# Altium footprint library BARR_0.5IN_2x1_0.PcbLib: 1 footprints
Each footprint in its own frame and in the unit in brackets; x right, y up, seen from the top. Pads: shape width x height; smd on the part's side, far side on the other; paste and mask are expansions set on the pad; w line width, h text height; cw(c..) or ccw(c..) is an arc to the next point about the centre after c.
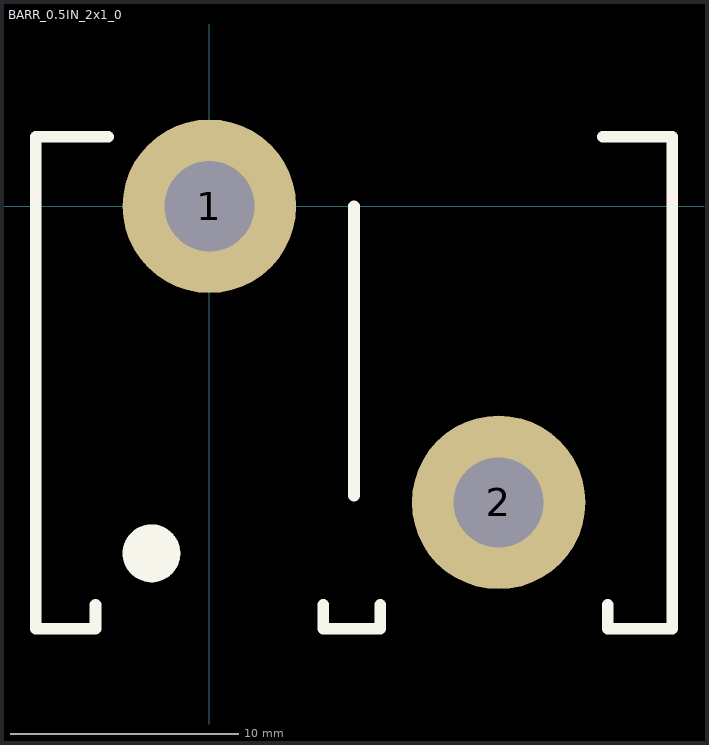
[diagram p0: the footprint, top view; thin cyan lines are the x and y axes]

## BARR_0.5IN_2x1_0 [mm] "Barrier Block, 0.5\" Pitch, 2 Pos, 1 Level, Molex 38969"
pads (2):
  round 7.62 hole 3.96: 1(0,0) 2(12.7,-13.005)
Top Overlay:
  circle w1.27: c-2.54,-15.24 r0.635
  lines w0.508: -5,-17.5 -5,-18.542 -7.62,-18.542 -7.62,0 -7.62,3.048 -4.445,3.048 ; 5,-17.5 5,-18.542 7.5,-18.542 7.5,-17.5 ; 6.35,-12.7 6.35,0 ; 17.272,3.048 20.32,3.048 20.32,0 20.32,-18.542 17.5,-18.542 17.5,-17.5
3D body "389690002_barrier_block.SLDPRT": height 22.6, standoff -4, extent -7.6,-18.547 20.3,3.053